# Altium footprint library SL_Capacitors_HV.PcbLib: 2 footprints
Each footprint in its own frame and in the unit in brackets; x right, y up, seen from the top. Pads: shape width x height; smd on the part's side, far side on the other; paste and mask are expansions set on the pad; w line width, h text height; cw(c..) or ccw(c..) is an arc to the next point about the centre after c.
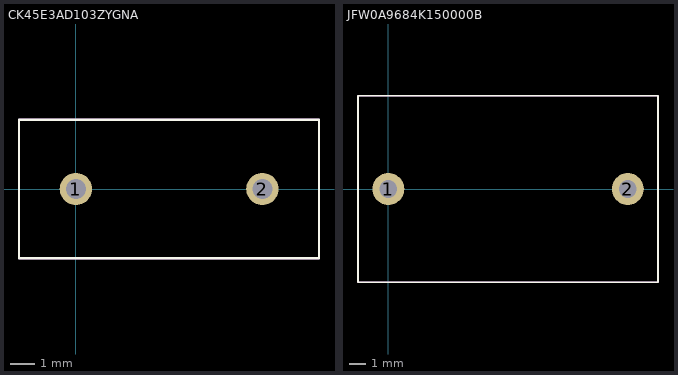
[diagram p0: the footprints below, top view; thin cyan lines are the x and y axes]

## CK45E3AD103ZYGNA [mm]
pads (2):
  round 1.3 hole 0.8: 1(0,0) 2(7.5,0)
Top Overlay:
  lines w0.1: -2.286,-2.794 9.779,-2.794 9.779,2.794 -2.286,2.794 -2.286,-2.794
Mechanical 13:
  lines w0.1: -2.286,-2.794 9.779,-2.794 9.779,2.794 -2.286,2.794 -2.286,-2.794
Mechanical 15:
  lines w0.1: -2.286,-2.794 9.779,-2.794 9.779,2.794 -2.286,2.794 -2.286,-2.794
3D body "CK45-E3AD103ZYGNA.stp": height 11.7, standoff -4.9, extent -2,-2.5 9.5,2.5

## JFW0A9684K150000B [mm]
pads (2):
  round 2 hole 1.1: 1(0,0) 2(15,0)
Top Overlay:
  lines w0.1: -1.905,-5.842 16.891,-5.842 16.891,5.842 -1.905,5.842 -1.905,-5.842
Mechanical 13:
  lines w0.1: -1.905,-5.842 16.891,-5.842 16.891,5.842 -1.905,5.842 -1.905,-5.842
Mechanical 15:
  lines w0.1: -1.905,-5.842 16.891,-5.842 16.891,5.842 -1.905,5.842 -1.905,-5.842
3D body "JFW0A9684K150000B.STEP": height 19.1, standoff -4.9, extent -1.5,-5.5 16.5,5.5